# EAGLE library part NEO-M8U (library FaBo-GPS)
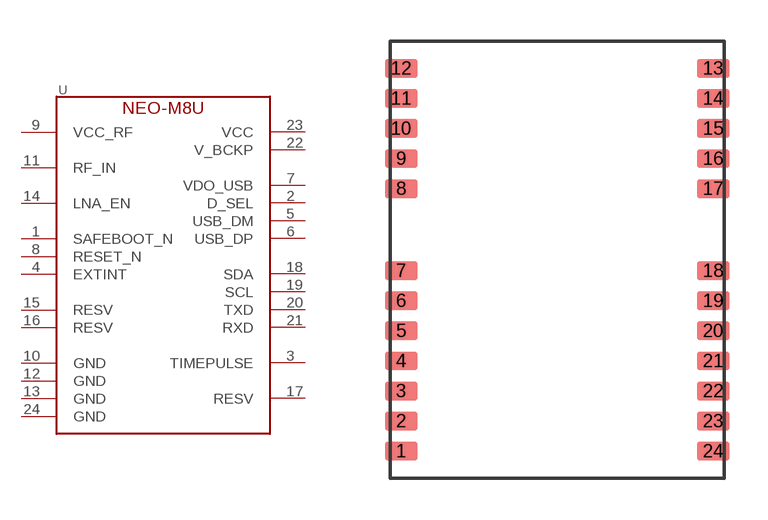
[diagram p1: symbol with the pads of NEO-M8M; footprint NEO-M8M]

Designator prefix U

## NEO-M8U  [NEO-M8M]
1  SAFEBOOT_N
2  D_SEL
3  TIMEPULSE
4  EXTINT
5  USB_DM
6  USB_DP
7  VDO_USB
8  RESET_N
9  VCC_RF
10  GND
11  RF_IN
12  GND
13  GND
14  LNA_EN
15  RESV
16  RESV
17  RESV
18  SDA
19  SCL
20  TXD
21  RXD
22  V_BCKP
23  VCC
24  GND

## Footprint NEO-M8M (pad centres in mm)
smd 1.2 x 0.7: 1 -5.7,-7; 2 -5.7,-5.9; 3 -5.7,-4.8; 4 -5.7,-3.7; 5 -5.7,-2.6; 6 -5.7,-1.5; 7 -5.7,-0.4; 8 -5.7,2.6; 9 -5.7,3.7; 10 -5.7,4.8; 11 -5.7,5.9; 12 -5.7,7; 13 5.7,7; 14 5.7,5.9; 15 5.7,4.8; 16 5.7,3.7; 17 5.7,2.6; 18 5.7,-0.4; 19 5.7,-1.5; 20 5.7,-2.6; 21 5.7,-3.7; 22 5.7,-4.8; 23 5.7,-5.9; 24 5.7,-7